# Altium footprint library PIN.PcbLib: 1 footprints
Each footprint in its own frame and in the unit in brackets; x right, y up, seen from the top. Pads: shape width x height; smd on the part's side, far side on the other; paste and mask are expansions set on the pad; w line width, h text height; cw(c..) or ccw(c..) is an arc to the next point about the centre after c.
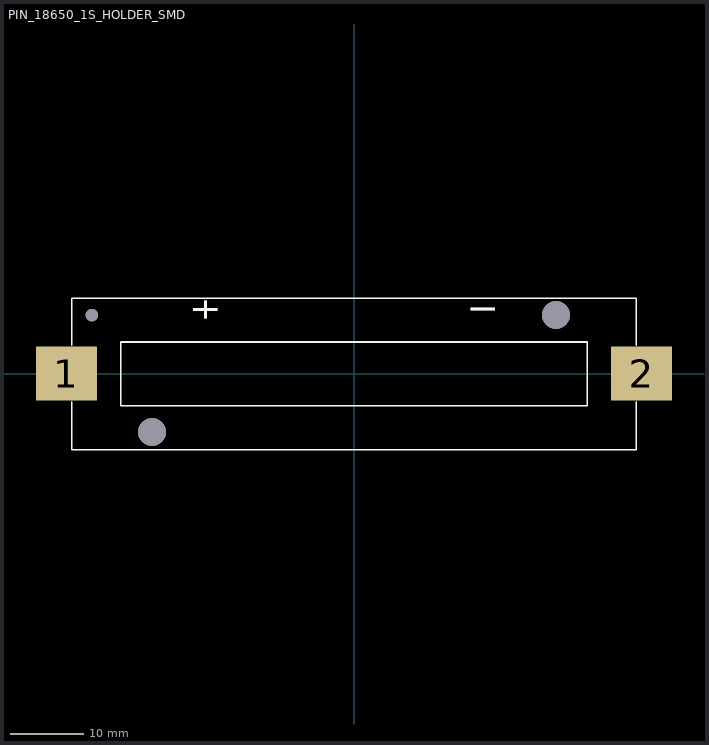
[diagram p0: the footprint, top view; thin cyan lines are the x and y axes]

## PIN_18650_1S_HOLDER_SMD [mm]
pads (5):
  rect 8.34x7.35 smd paste+0 mask+0.051: 1(-39.345,0) 2(39.345,0)
  round 1.7 hole 1.7 unplated paste-2539.97: ""(-35.84,8)
  round 3.8 hole 3.8 unplated paste-2539.97: ""(-27.62,-8) ""(27.62,8)
Top Overlay:
  region: -20.13,7.556 -20.511,7.556 -20.511,9.97 -20.13,9.97
  region: -18.669,8.572 -21.971,8.572 -21.971,8.954 -18.669,8.954
  region: 19.255,8.646 15.953,8.646 15.953,9.027 19.255,9.027
  lines w0.254: -38.608,-3.906 -38.608,-10.414 38.608,-10.414 38.608,-3.937 ; -38.608,3.906 -38.608,10.287 38.481,10.287 38.608,10.287 38.608,3.906 ; 38.608,-4.064 38.608,-3.906 ; -31.9,-4.4 -31.9,4.3 31.9,4.3 31.9,-4.4 31.8,-4.4 -31.9,-4.4
Mechanical 15:
  circle w1.84: c27.62,8 r0.92
  circle w1.84: c-27.62,-8 r0.92
  circle w0.785: c-35.84,8 r0.393
  region: 19.255,8.646 15.953,8.646 15.953,9.027 19.255,9.027
  region: -20.13,7.556 -20.511,7.556 -20.511,9.97 -20.13,9.97
  region: -18.669,8.572 -21.971,8.572 -21.971,8.954 -18.669,8.954
3D body "Hold_18650-1p_smd_WITH_BAT.step": height 17.46, standoff -3.3, extent -43.22,-10.4 43.22,10.4